# EAGLE library part ETD49 (library ETD)
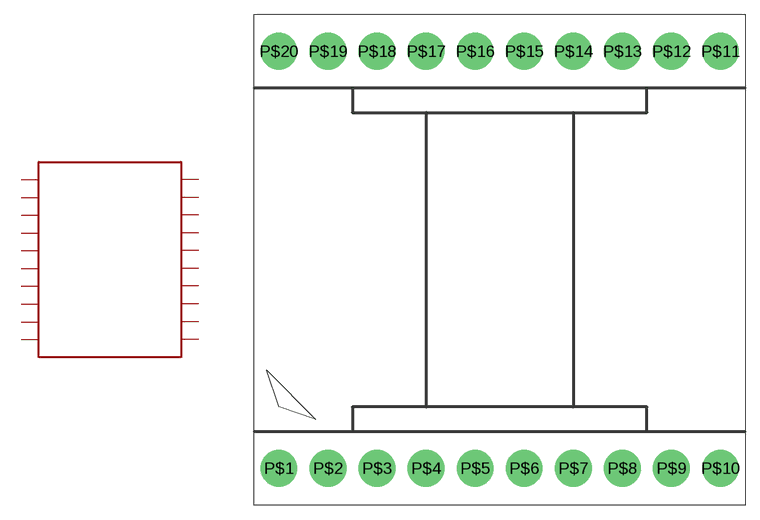
[diagram p0: symbol with the pads of ETD49; footprint ETD49]

Designator prefix -

## ETD49  [ETD49]
P$1  1
P$2  2
P$3  P$3
P$4  4
P$5  5
P$6  6
P$7  7
P$8  8
P$9  9
P$10  10
P$11  11
P$12  12
P$13  13
P$14  14
P$15  15
P$16  16
P$17  17
P$18  18
P$19  19
P$20  20

## Footprint ETD49 (pad centres in mm)
drill 1.5 pad 3.81: P$1 -22.86,-21.59; P$2 -17.78,-21.59; P$3 -12.7,-21.59; P$4 -7.62,-21.59; P$5 -2.54,-21.59; P$6 2.54,-21.59; P$7 7.62,-21.59; P$8 12.7,-21.59; P$9 17.78,-21.59; P$10 22.86,-21.59; P$11 22.86,21.59; P$12 17.78,21.59; P$13 12.7,21.59; P$14 7.62,21.59; P$15 2.54,21.59; P$16 -2.54,21.59; P$17 -7.62,21.59; P$18 -12.7,21.59; P$19 -17.78,21.59; P$20 -22.86,21.59